# Altium schematic symbol library switch_rocker.SchLib: 2 symbols
Pins are listed as number, name and electrical type; pins without a type are passive.

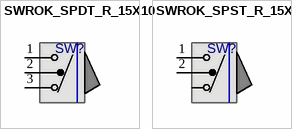
[diagram p0: symbols SWROK_SPDT_R_15X10 to SWROK_SPST_R_15X10]

## SWROK_SPDT_R_15X10
designator SW?, comment ToggleSwitch  (value not drawn)
SWITCH, Rocker, SPDT, THD, 15x10.5mm; DESC: DESCRIPTION; MANF: -; MANF_PART#: -; VALUE: ToggleSwitch; ASSEMBLY: ASSEMBLY; PARAM: -; PRICE: -
footprint SWRCK_SPDT_S_15X10 (SWITCH Rocker, SPDT, Straight, 15x10)
pins: 1 T1, 2 COM, 3 T2

## SWROK_SPST_R_15X10
designator SW?, comment ToggleSwitch  (value not drawn)
SWITCH, Rocker, SPST, THD, 15x10.5mm; DESC: DESCRIPTION; MANF: -; MANF_PART#: -; VALUE: ToggleSwitch; ASSEMBLY: ASSEMBLY; PARAM: -; PRICE: -
footprint SWRCK_SPST_S_15X10 (SWITCH Rocker, SPST, Straight, 15x10)
pins: 1 T1, 2 COM